# Altium footprint library ACAS Resistor Array.PcbLib: 1 footprints
Each footprint in its own frame and in the unit in brackets; x right, y up, seen from the top. Pads: shape width x height; smd on the part's side, far side on the other; paste and mask are expansions set on the pad; w line width, h text height; cw(c..) or ccw(c..) is an arc to the next point about the centre after c.
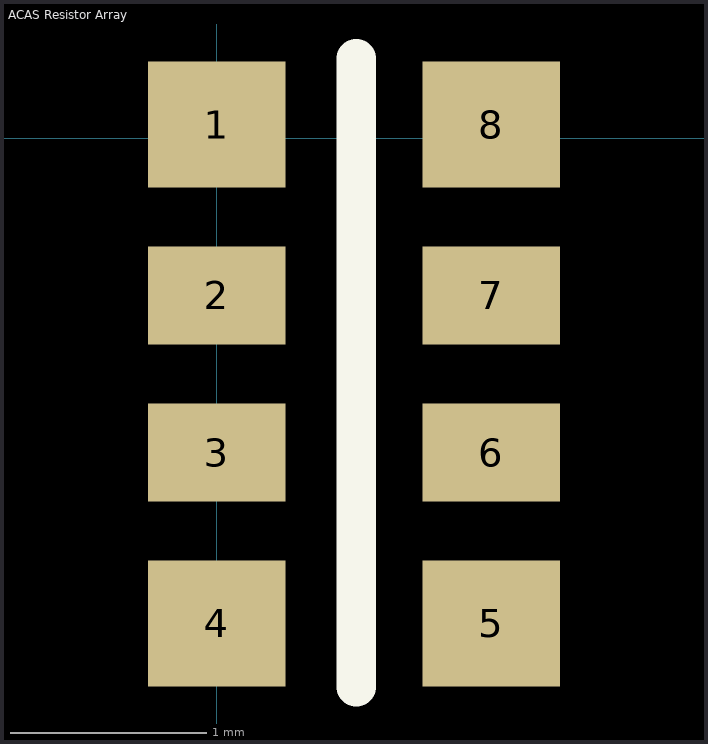
[diagram p0: the footprint, top view; thin cyan lines are the x and y axes]

## ACAS Resistor Array [mm]
pads (8):
  rect 0.7x0.64 smd: 1(0,0.07) 4(0,-2.47) 5(1.4,-2.47) 8(1.4,0.07)
  rect 0.7x0.5 smd: 2(0,-0.8) 3(0,-1.6) 6(1.4,-1.6) 7(1.4,-0.8)
Top Overlay:
  lines w0.2: 0.711,-2.794 0.711,0.406